# Altium footprint library display 1202.PcbLib: 25 footprints (part 1 of 2)
Each footprint in its own frame and in the unit in brackets; x right, y up, seen from the top. Pads: shape width x height; smd on the part's side, far side on the other; paste and mask are expansions set on the pad; w line width, h text height; cw(c..) or ccw(c..) is an arc to the next point about the centre after c.
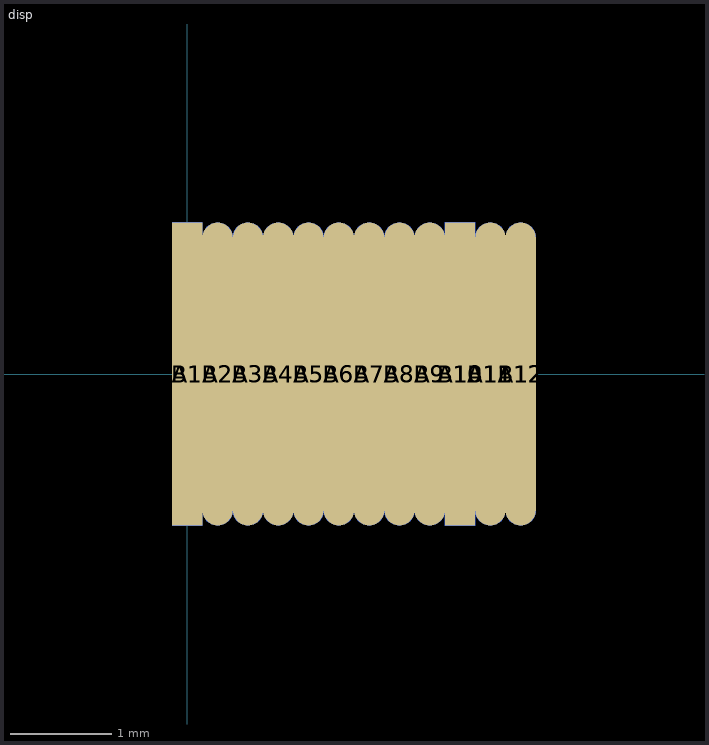
[diagram p0: the footprints below, top view; thin cyan lines are the x and y axes]

## Capacitor [mm]

## Diode [mm]

## disp [mm]
pads (24):
  rect 0.3x3 smd: A1(0,0) A10(2.7,0)
  oval 0.3x3 smd: A2(0.3,0) A3(0.6,0) A4(0.9,0) A5(1.2,0) A6(1.5,0) A7(1.8,0) A8(2.1,0) A9(2.4,0) A11(3,0) A12(3.3,0)
  rect 0.3x3 smd far side: B1(0,0) B10(2.7,0)
  oval 0.3x3 smd far side: B2(0.3,0) B3(0.6,0) B4(0.9,0) B5(1.2,0) B6(1.5,0) B7(1.8,0) B8(2.1,0) B9(2.4,0) B11(3,0) B12(3.3,0)

## Edge Connector [mm]

## Edge Connector - duplicate [mm]

## Edge Connector - duplicate1 [mm]

## Edge Connector - duplicate2 [mm]

## Edge Connector - duplicate3 [mm]

## Edge Connector - duplicate4 [mm]

## Edge Connector - duplicate5 [mm]

## Edge Connector - duplicate6 [mm]

## Edge Connector - duplicate7 [mm]

## Edge Connector - duplicate8 [mm]

## Edge Connector - duplicate9 [mm]

## Edge Connector - duplicate10 [mm]

## lcd [mm]